# EAGLE library part P9221-R (library maka-niu)
Renesas/IDT P9221-R 15W Qi Wireless Charging Receiver
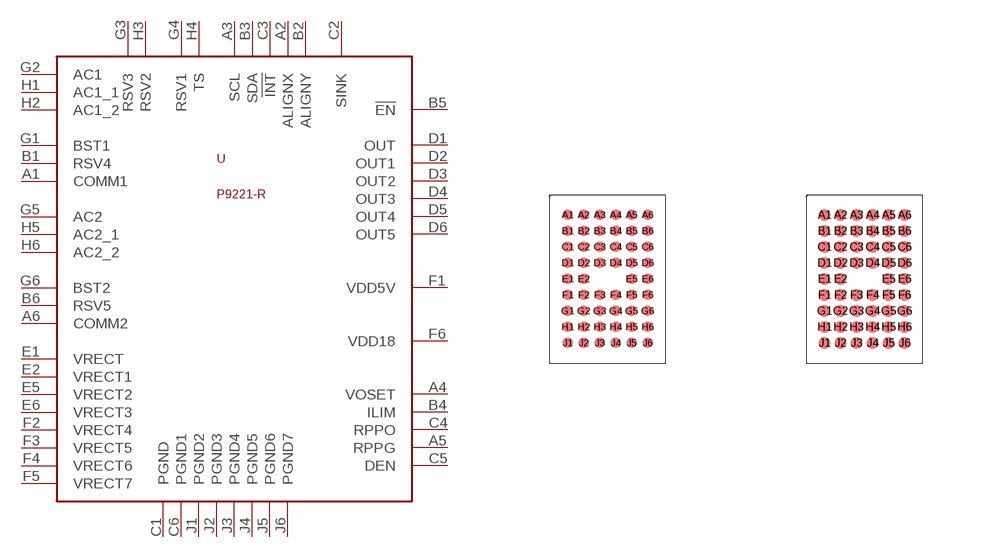
[diagram p0: symbol with the pads of CSP52_2P64X3P94_0P4MM_1PRIMARY; footprints CSP52_2P64X3P94_0P4MM_1PRIMARY, CSP52_2P64X3P94_0P4MM_03MMPAD]

Designator prefix -

## P9221-R  [CSP52_2P64X3P94_0P4MM_1PRIMARY]
A1  COMM1  out
A2  ALIGNX  in
A3  SCL  in
A4  VOSET  in
A5  RPPG  in
A6  COMM2  out
B1  RSV4  nc
B2  ALIGNY  in
B3  SDA
B4  ILIM  in
B5  !EN  in
B6  RSV5  nc
C1  PGND  pwr
C2  SINK  out
C3  !INT  out
C4  RPPO  in
C5  DEN  in
C6  PGND1  pwr
D1  OUT  out
D2  OUT1  out
D3  OUT2  out
D4  OUT3  out
D5  OUT4  out
D6  OUT5  out
E1  VRECT  out
E2  VRECT1  out
E5  VRECT2  out
E6  VRECT3  out
F1  VDD5V  out
F2  VRECT4  out
F3  VRECT5  out
F4  VRECT6  out
F5  VRECT7  out
F6  VDD18  out
G1  BST1  out
G2  AC1  in
G3  RSV3  in
G4  RSV1  nc
G5  AC2  in
G6  BST2  out
H1  AC1_1  in
H2  AC1_2  in
H3  RSV2  in
H4  TS  in
H5  AC2_1  in
H6  AC2_2  in
J1  PGND2  pwr
J2  PGND3  pwr
J3  PGND4  pwr
J4  PGND5  pwr
J5  PGND6  pwr
J6  PGND7  pwr

## P9221-R03MM_PAD  [CSP52_2P64X3P94_0P4MM_03MMPAD]
Pads as for CSP52_2P64X3P94_0P4MM_1PRIMARY

## Footprint CSP52_2P64X3P94_0P4MM_1PRIMARY (pad centres in mm)
52-Ball, Wafer Level Chip Scale Package (WLCSP)
smd 0.268 x 0.268: A1 -1,1.6; A2 -0.6,1.6; A3 -0.2,1.6; A4 0.2,1.6; A5 0.6,1.6; A6 1,1.6; B1 -1,1.2; B2 -0.6,1.2; B3 -0.2,1.2; B4 0.2,1.2; B5 0.6,1.2; B6 1,1.2; C1 -1,0.8; C2 -0.6,0.8; C3 -0.2,0.8; C4 0.2,0.8; C5 0.6,0.8; C6 1,0.8; D1 -1,0.4; D2 -0.6,0.4; D3 -0.2,0.4; D4 0.2,0.4; D5 0.6,0.4; D6 1,0.4; E1 -1,0; E2 -0.6,0; E5 0.6,0; E6 1,0; F1 -1,-0.4; F2 -0.6,-0.4; F3 -0.2,-0.4; F4 0.2,-0.4; F5 0.6,-0.4; F6 1,-0.4; G1 -1,-0.8; G2 -0.6,-0.8; G3 -0.2,-0.8; G4 0.2,-0.8; G5 0.6,-0.8; G6 1,-0.8; H1 -1,-1.2; H2 -0.6,-1.2; H3 -0.2,-1.2; H4 0.2,-1.2; H5 0.6,-1.2; H6 1,-1.2; J1 -1,-1.6; J2 -0.6,-1.6; J3 -0.2,-1.6; J4 0.2,-1.6; J5 0.6,-1.6; J6 1,-1.6

## Footprint CSP52_2P64X3P94_0P4MM_03MMPAD (pad centres in mm)
52-Ball, Wafer Level Chip Scale Package (WLCSP)
smd 0.3 x 0.3: A1 -1,1.6; A2 -0.6,1.6; A3 -0.2,1.6; A4 0.2,1.6; A5 0.6,1.6; A6 1,1.6; B1 -1,1.2; B2 -0.6,1.2; B3 -0.2,1.2; B4 0.2,1.2; B5 0.6,1.2; B6 1,1.2; C1 -1,0.8; C2 -0.6,0.8; C3 -0.2,0.8; C4 0.2,0.8; C5 0.6,0.8; C6 1,0.8; D1 -1,0.4; D2 -0.6,0.4; D3 -0.2,0.4; D4 0.2,0.4; D5 0.6,0.4; D6 1,0.4; E1 -1,0; E2 -0.6,0; E5 0.6,0; E6 1,0; F1 -1,-0.4; F2 -0.6,-0.4; F3 -0.2,-0.4; F4 0.2,-0.4; F5 0.6,-0.4; F6 1,-0.4; G1 -1,-0.8; G2 -0.6,-0.8; G3 -0.2,-0.8; G4 0.2,-0.8; G5 0.6,-0.8; G6 1,-0.8; H1 -1,-1.2; H2 -0.6,-1.2; H3 -0.2,-1.2; H4 0.2,-1.2; H5 0.6,-1.2; H6 1,-1.2; J1 -1,-1.6; J2 -0.6,-1.6; J3 -0.2,-1.6; J4 0.2,-1.6; J5 0.6,-1.6; J6 1,-1.6